# Altium footprint library PCB - CONNECTOR - WURTH - WURTH MMCX 66011102111302.PcbLib: 1 footprints
Each footprint in its own frame and in the unit in brackets; x right, y up, seen from the top. Pads: shape width x height; smd on the part's side, far side on the other; paste and mask are expansions set on the pad; w line width, h text height; cw(c..) or ccw(c..) is an arc to the next point about the centre after c.
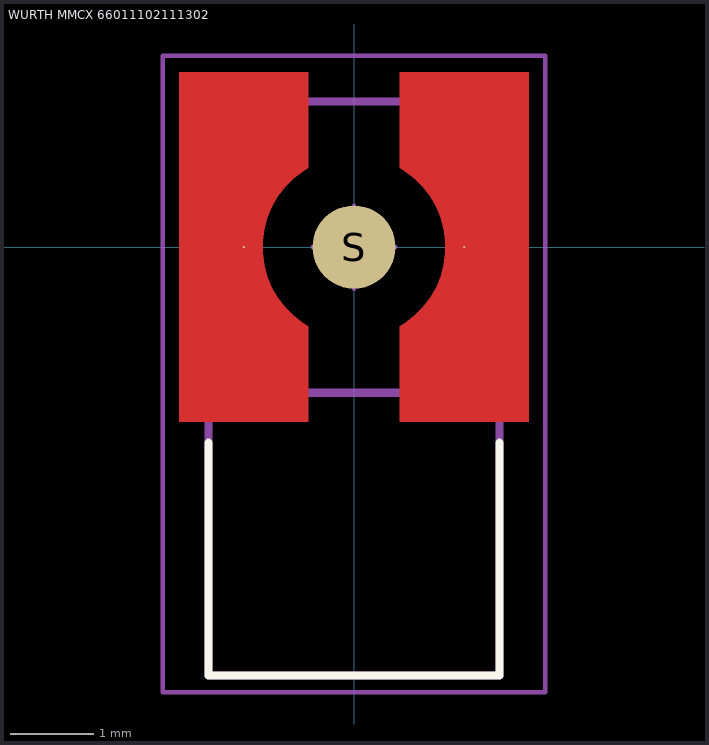
[diagram p0: the footprint, top view; thin cyan lines are the x and y axes]

## WURTH MMCX 66011102111302 [mm] "MMCX PCB Jack R/A SMT"
height 4.6
pads (3):
  round 0.025 smd: G(-1.325,0) G(1.325,0)
  round 1 smd: S(0,0)
Top Layer:
  region: -2.1,-2.1 -2.1,2.1 -0.55,2.1 -0.55,0.953 -0.611,0.915 -0.725,0.827 -0.827,0.725 -0.915,0.611 -0.987,0.487 -1.042,0.354 -1.079,0.215 -1.098,0.072 -1.098,-0.072 -1.079,-0.215 -1.042,-0.354 -0.987,-0.487 -0.915,-0.611 -0.827,-0.725 -0.725,-0.827 -0.611,-0.915 -0.55,-0.953 -0.55,-2.1
  region: 2.1,-2.1 2.1,2.1 0.55,2.1 0.55,0.953 0.611,0.915 0.725,0.827 0.827,0.725 0.915,0.611 0.987,0.487 1.042,0.354 1.079,0.215 1.098,0.072 1.098,-0.072 1.079,-0.215 1.042,-0.354 0.987,-0.487 0.915,-0.611 0.827,-0.725 0.725,-0.827 0.611,-0.915 0.55,-0.953 0.55,-2.1
Top Overlay:
  lines w0.1: -1.75,-2.35 -1.75,-5.15 1.75,-5.15 1.75,-2.35
Top 3D Body:
  lines w0.1: -1.75,-1.75 -1.75,-5.15 1.75,-5.15 1.75,-1.75 ; -1.75,-1.75 1.75,-1.75 ; -1.75,-1.75 -1.75,1.75 1.75,1.75 1.75,-1.75
Top Component Outline:
  lines w0.1: -1.75,-1.75 -1.75,1.75 1.75,1.75 1.75,-1.75 ; -1.75,-1.75 1.75,-1.75 ; -1.75,-1.75 -1.75,-5.15 1.75,-5.15 1.75,-1.75
Top Courtyard:
  lines w0.05: -0.5,0 0.5,0 ; 0,-0.5 0,0.5 ; -2.3,-5.35 2.3,-5.35 2.3,2.3 -2.3,2.3 -2.3,-5.35
3D body "Wurth 66011102111302.step": height 4.6, standoff 0, extent -1.75,-5.15 1.75,1.75